# Altium footprint library 功率控制板.PcbLib: 36 footprints (part 1 of 3)
Each footprint in its own frame and in the unit in brackets; x right, y up, seen from the top. Pads: shape width x height; smd on the part's side, far side on the other; paste and mask are expansions set on the pad; w line width, h text height; cw(c..) or ccw(c..) is an arc to the next point about the centre after c.
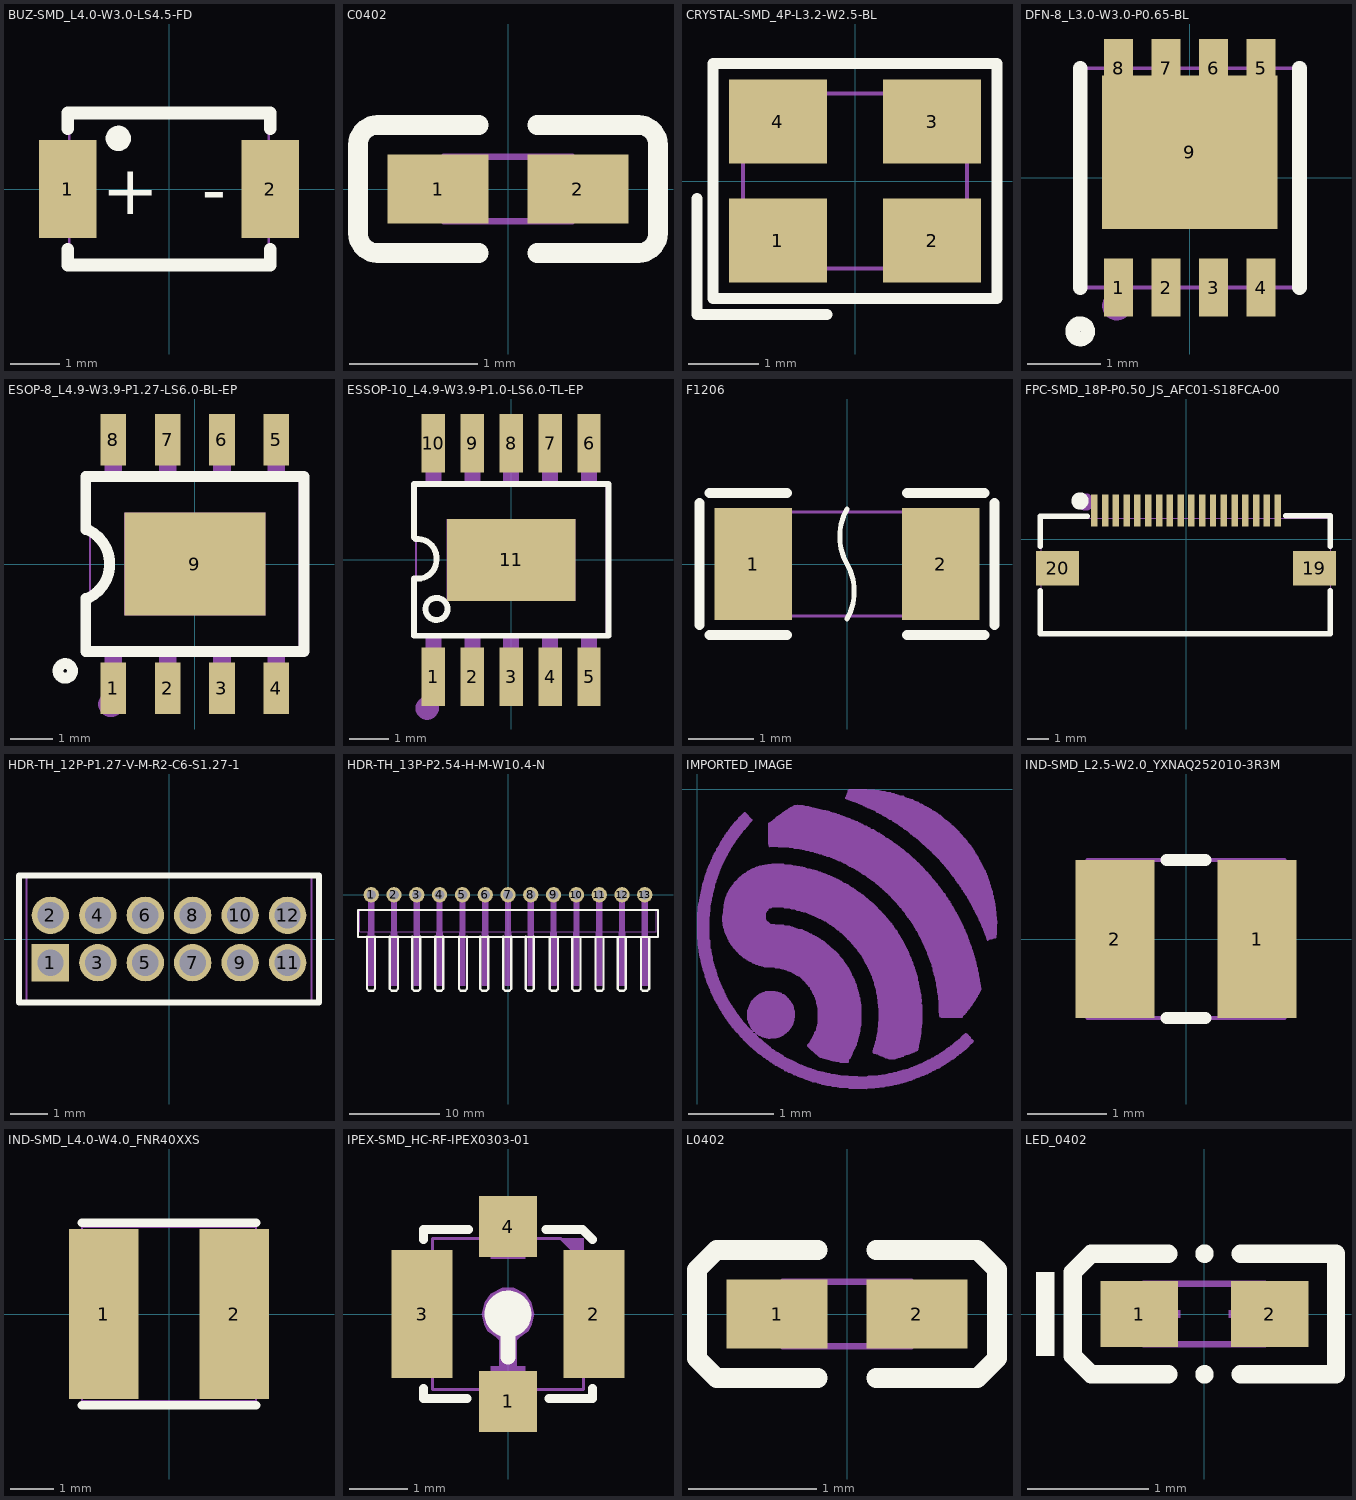
[diagram p0: the footprints below, top view; thin cyan lines are the x and y axes]

## BUZ-SMD_L4.0-W3.0-LS4.5-FD [mm]
pads (2):
  rect 1.16x1.96 smd: 1(-2.03,0) 2(2.03,0)
Top Overlay:
  circle w0.254: c-1.016,1.016 r0.127
  lines w0.254: -2.032,-1.211 -2.032,-1.524 2.032,-1.524 2.032,-1.211 ; -2.032,1.211 -2.032,1.524 2.032,1.524 2.032,1.211
  text "+" at -1.35,-0.51 h1
  text "-" at 0.66,-0.5 h1
Mechanical 15:
  region: -2.25,-0.7 -1.65,-0.7 -1.65,0.7 -2.25,0.7
  region: 2.25,-0.7 1.65,-0.7 1.65,0.7 2.25,0.7
  lines w0.051: -2,-1.5 2,-1.5 2,1.5 -2,1.5 -2,-1.5

## C0402 [mm]
pads (2):
  rect 0.79x0.54 smd paste-100 mask+0.051: 1(-0.545,0) 2(0.545,0)
Top Overlay:
  lines w0.152: -0.226,-0.499 -1.016,-0.499 cw(c-1.016,-0.346) -1.169,-0.346 -1.169,0.346 cw(c-1.016,0.346) -1.016,0.499 -0.226,0.499 ; 0.226,-0.499 1.016,-0.499 ccw(c1.016,-0.346) 1.169,-0.346 1.169,0.346 ccw(c1.016,0.346) 1.016,0.499 0.226,0.499
Top Paste:
  region: 0.78,0.225 0.78,-0.225 0.73,-0.275 0.25,-0.275 0.18,-0.225 0.18,0.225 0.25,0.275 0.73,0.275
  region: -0.18,0.225 -0.18,-0.225 -0.25,-0.275 -0.73,-0.275 -0.78,-0.225 -0.78,0.225 -0.73,0.275 -0.25,0.275
Mechanical 15:
  region: 0.5,-0.25 0.5,0.25 0.25,0.25 0.25,-0.25
  region: -0.5,-0.25 -0.5,0.25 -0.25,0.25 -0.25,-0.25
  lines w0.051: -0.5,-0.25 0.5,-0.25 0.5,0.25 -0.5,0.25 -0.5,-0.25

## CRYSTAL-SMD_4P-L3.2-W2.5-BL [mm]
pads (4):
  rect 1.4x1.2 smd: 1(-1.1,-0.85) 2(1.1,-0.85) 3(1.1,0.85) 4(-1.1,0.85)
Top Overlay:
  lines w0.152: -2.257,-0.25 -2.257,-1.907 -0.4,-1.907 ; -2.029,-1.678 2.029,-1.678 2.029,1.679 -2.029,1.679 -2.029,-1.678
Mechanical 6:
  circle w0.36: c-1.143,-0.889 r0.18
Mechanical 15:
  region: -1.5,-0.35 -0.6,-0.35 -0.6,-1.15 -1.5,-1.15
  region: 0.6,-0.35 1.5,-0.35 1.5,-1.15 0.6,-1.15
  region: 0.6,1.15 1.5,1.15 1.5,0.35 0.6,0.35
  region: -1.5,1.15 -0.6,1.15 -0.6,0.35 -1.5,0.35
  lines w0.051: -1.6,-1.25 1.6,-1.25 1.6,1.25 -1.6,1.25 -1.6,-1.25

## DFN-8_L3.0-W3.0-P0.65-BL [mm]
pads (9):
  rect 0.4x0.8 smd paste-100 mask+0.051: 1(-0.975,-1.5) 2(-0.325,-1.5) 3(0.325,-1.5) 4(0.975,-1.5) 5(0.975,1.5) 6(0.325,1.5) 7(-0.325,1.5) 8(-0.975,1.5)
  rect 2.4x2.1 smd paste-100 mask+0.051: 9(0,0.35)
Top Overlay:
  circle w0.2: c-1.5,-2.1 r0.105
  lines w0.2: -1.5,-1.5 -1.5,1.5 ; 1.5,-1.5 1.5,1.5
Top Paste:
  region: 1.2,-0.7 -1.2,-0.7 -1.2,1.4 -1.175,1.4 -1.175,1.9 -0.775,1.9 -0.775,1.4 -0.525,1.4 -0.525,1.9 -0.125,1.9 -0.125,1.4 0.125,1.4 0.125,1.9 0.525,1.9 0.525,1.4 0.775,1.4 0.775,1.9 1.175,1.9 1.175,1.4 1.2,1.4
  region: 1.175,-1.9 0.775,-1.9 0.775,-1.1 1.175,-1.1
  region: 0.525,-1.9 0.125,-1.9 0.125,-1.1 0.525,-1.1
  region: -0.125,-1.9 -0.525,-1.9 -0.525,-1.1 -0.125,-1.1
  region: -0.775,-1.9 -1.175,-1.9 -1.175,-1.1 -0.775,-1.1
Mechanical 6:
  circle w0.2: c-1,-1.75 r0.1
Mechanical 15:
  region: -0.825,1.2 -1.125,1.2 -1.125,1.6 -0.825,1.6
  region: -0.175,1.2 -0.475,1.2 -0.475,1.6 -0.175,1.6
  region: 0.475,1.2 0.175,1.2 0.175,1.6 0.475,1.6
  region: -0.825,-1.6 -1.125,-1.6 -1.125,-1.2 -0.825,-1.2
  region: -0.175,-1.6 -0.475,-1.6 -0.475,-1.2 -0.175,-1.2
  region: 0.475,-1.6 0.175,-1.6 0.175,-1.2 0.475,-1.2
  region: -1.175,1.35 1.175,1.35 1.175,-0.65 -1.175,-0.65
  region: 1.125,-1.6 0.825,-1.6 0.825,-1.2 1.125,-1.2
  region: 1.125,1.2 0.825,1.2 0.825,1.6 1.125,1.6
  lines w0.051: -1.5,-1.5 1.5,-1.5 1.5,1.5 -1.5,1.5 -1.5,-1.5

## ESOP-8_L4.9-W3.9-P1.27-LS6.0-BL-EP [mm]
pads (9):
  rect 0.6x1.2 smd: 1(-1.905,-2.908) 2(-0.635,-2.908) 3(0.635,-2.908) 4(1.905,-2.908) 5(1.905,2.908) 6(0.635,2.908) 7(-0.635,2.908) 8(-1.905,2.908)
  rect 3.3x2.4 smd: 9(0,0)
Top Overlay:
  circle w0.254: c-3.03,-2.5 r0.17
  lines w0.254: -2.55,-0.8 -2.55,-2.05 2.55,-2.05 2.55,2.05 -2.55,2.05 -2.55,0.8 ; -2.5,-0.8 ccw(c-2.875,0) -2.5,0.8
Mechanical 6:
  circle w0.3: c-1.96,-3.28 r0.15
Mechanical 15:
  region: 1.65,-1.2 -1.65,-1.2 -1.65,1.2 1.65,1.2
  region: 1.705,-2.95 1.705,-2.3 2.105,-2.3 2.105,-2.95
  region: 1.705,-2.31 1.705,-1.94 2.105,-1.94 2.105,-2.31
  region: 0.435,-2.95 0.435,-2.3 0.835,-2.3 0.835,-2.95
  region: 0.435,-2.31 0.435,-1.94 0.835,-1.94 0.835,-2.31
  region: -0.835,-2.95 -0.835,-2.3 -0.435,-2.3 -0.435,-2.95
  region: -0.835,-2.31 -0.835,-1.94 -0.435,-1.94 -0.435,-2.31
  region: -2.105,-2.95 -2.105,-2.3 -1.705,-2.3 -1.705,-2.95
  region: -2.105,-2.31 -2.105,-1.94 -1.705,-1.94 -1.705,-2.31
  region: 1.705,2.3 1.705,2.95 2.105,2.95 2.105,2.3
  region: 1.705,1.94 1.705,2.31 2.105,2.31 2.105,1.94
  region: 0.435,2.3 0.435,2.95 0.835,2.95 0.835,2.3
  region: 0.435,1.94 0.435,2.31 0.835,2.31 0.835,1.94
  region: -0.835,2.3 -0.835,2.95 -0.435,2.95 -0.435,2.3
  region: -0.835,1.94 -0.835,2.31 -0.435,2.31 -0.435,1.94
  region: -2.105,2.3 -2.105,2.95 -1.705,2.95 -1.705,2.3
  region: -2.105,1.94 -2.105,2.31 -1.705,2.31 -1.705,1.94
  lines w0.051: -2.45,-1.95 -2.45,1.95 2.45,1.95 2.45,-1.95 -2.45,-1.95

## ESSOP-10_L4.9-W3.9-P1.0-LS6.0-TL-EP [mm]
pads (11):
  rect 0.6x1.5 smd paste+0 mask+0.05: 1(-2,-3) 2(-1,-3) 3(0,-3) 4(1,-3) 5(2,-3) 6(2,3) 7(1,3) 8(0,3) 9(-1,3) 10(-2,3)
  rect 3.3x2.1 smd paste+0 mask+0.05: 11(0,0)
Top Overlay:
  circle w0.15: c-1.92,-1.26 r0.284
  lines w0.15: -2.5,-1.95 2.5,-1.95 2.5,1.95 -2.5,1.95 -2.5,0.82 -2.5,0.58 -2.46,0.54 cw(c-2.416,0.044) -1.92,0 cw(c-2.4,0) -2.4,-0.48 -2.5,-0.48 -2.5,-1.95
Mechanical 6:
  circle w0.3: c-2.159,-3.81 r0.15
Mechanical 15:
  region: 1.65,-1.05 -1.65,-1.05 -1.65,1.05 1.65,1.05
  region: -2.2,2.38 -2.2,3 -1.8,3 -1.8,2.38
  region: -2.2,1.94 -2.2,2.39 -1.8,2.39 -1.8,1.94
  region: -1.2,2.38 -1.2,3 -0.8,3 -0.8,2.38
  region: -1.2,1.94 -1.2,2.39 -0.8,2.39 -0.8,1.94
  region: -0.2,2.38 -0.2,3 0.2,3 0.2,2.38
  region: -0.2,1.94 -0.2,2.39 0.2,2.39 0.2,1.94
  region: 0.8,2.38 0.8,3 1.2,3 1.2,2.38
  region: 0.8,1.94 0.8,2.39 1.2,2.39 1.2,1.94
  region: 1.8,2.38 1.8,3 2.2,3 2.2,2.38
  region: 1.8,1.94 1.8,2.39 2.2,2.39 2.2,1.94
  region: 1.8,-3 1.8,-2.38 2.2,-2.38 2.2,-3
  region: 1.8,-2.39 1.8,-1.94 2.2,-1.94 2.2,-2.39
  region: 0.8,-3 0.8,-2.38 1.2,-2.38 1.2,-3
  region: 0.8,-2.39 0.8,-1.94 1.2,-1.94 1.2,-2.39
  region: -0.2,-3 -0.2,-2.38 0.2,-2.38 0.2,-3
  region: -0.2,-2.39 -0.2,-1.94 0.2,-1.94 0.2,-2.39
  region: -1.2,-3 -1.2,-2.38 -0.8,-2.38 -0.8,-3
  region: -1.2,-2.39 -1.2,-1.94 -0.8,-1.94 -0.8,-2.39
  region: -2.2,-3 -2.2,-2.38 -1.8,-2.38 -1.8,-3
  region: -2.2,-2.39 -2.2,-1.94 -1.8,-1.94 -1.8,-2.39
  lines w0.051: -2.45,-1.95 2.45,-1.95 2.45,1.95 -2.45,1.95 -2.45,-1.95

## F1206 [mm]
pads (2):
  rect 1.19x1.728 smd: 1(-1.445,0) 2(1.445,0)
Top Overlay:
  lines w0.076: 0,-0.845 ccw(c-0.732,-0.422) 0,0 cw(c0.732,0.422) 0,0.845
  lines w0.152: -2.269,-0.94 -2.269,0.94 ; -2.116,-1.093 -0.926,-1.093 ; -2.116,1.093 -0.926,1.093 ; 0.926,-1.093 2.116,-1.093 ; 0.926,1.093 2.116,1.093 ; 2.269,-0.94 2.269,0.94
Mechanical 15:
  region: 1.1,-0.8 1.6,-0.8 1.6,0.8 1.1,0.8
  region: -1.6,-0.8 -1.1,-0.8 -1.1,0.8 -1.6,0.8
  lines w0.051: -1.6,-0.8 -1.6,0.8 1.6,0.8 1.6,-0.8 -1.6,-0.8

## FPC-SMD_18P-P0.50_JS_AFC01-S18FCA-00 [mm]
pads (20):
  rect 0.3x1.5 smd paste+0 mask+0.051: 1(-4.25,1.339) 2(-3.75,1.339) 3(-3.25,1.339) 4(-2.75,1.339) 5(-2.249,1.339) 6(-1.749,1.339) 7(-1.249,1.339) 8(-0.749,1.339) 9(-0.25,1.339) 10(0.25,1.339) 11(0.75,1.339) 12(1.251,1.339) 13(1.751,1.339) 14(2.25,1.339) 15(2.751,1.339) 16(3.25,1.339) 17(3.75,1.339) 18(4.251,1.339)
  rect 2x1.6 smd paste+0 mask+0.051: 19(5.949,-1.339) 20(-5.949,-1.339)
Top Overlay:
  circle w0.4: c-4.91,1.78 r0.2
  lines w0.254: -6.75,-2.371 -6.75,-4.37 6.69,-4.37 6.69,-2.371 ; -6.75,-0.308 -6.75,1.07 -4.57,1.07 ; 4.63,1.09 6.69,1.09 6.69,-0.308
Mechanical 6:
  circle w0.4: c-4.66,1.73 r0.2
Mechanical 15:
  region: 4.151,1.685 4.351,1.685 4.351,0.685 4.151,0.685
  region: 3.65,1.685 3.85,1.685 3.85,0.685 3.65,0.685
  region: 3.15,1.685 3.35,1.685 3.35,0.685 3.15,0.685
  region: 2.651,1.685 2.851,1.685 2.851,0.685 2.651,0.685
  region: 2.15,1.685 2.35,1.685 2.35,0.685 2.15,0.685
  region: 1.651,1.685 1.851,1.685 1.851,0.685 1.651,0.685
  region: 1.151,1.685 1.351,1.685 1.351,0.685 1.151,0.685
  region: 0.65,1.685 0.85,1.685 0.85,0.685 0.65,0.685
  region: 0.15,1.685 0.35,1.685 0.35,0.685 0.15,0.685
  region: -0.35,1.685 -0.15,1.685 -0.15,0.685 -0.35,0.685
  region: -0.849,1.685 -0.649,1.685 -0.649,0.685 -0.849,0.685
  region: -1.349,1.685 -1.149,1.685 -1.149,0.685 -1.349,0.685
  region: -1.849,1.685 -1.649,1.685 -1.649,0.685 -1.849,0.685
  region: -2.349,1.685 -2.149,1.685 -2.149,0.685 -2.349,0.685
  region: -2.85,1.685 -2.65,1.685 -2.65,0.685 -2.85,0.685
  region: -3.35,1.685 -3.15,1.685 -3.15,0.685 -3.35,0.685
  region: -3.85,1.685 -3.65,1.685 -3.65,0.685 -3.85,0.685
  region: -4.35,1.685 -4.15,1.685 -4.15,0.685 -4.35,0.685
  region: 6.699,-1.839 5.199,-1.839 5.199,-0.839 6.699,-0.839
  region: -6.699,-0.839 -5.199,-0.839 -5.199,-1.839 -6.699,-1.839
  lines w0.051: -6.7,-4.365 -6.7,0.985 6.7,0.985 6.7,-4.365 -6.7,-4.365

## HDR-TH_12P-P1.27-V-M-R2-C6-S1.27-1 [mm]
pads (12):
  rect 1x1 hole 0.7 paste+0 mask+0.05: 1(-3.175,-0.635)
  round 1 hole 0.7 paste+0 mask+0.05: 2(-3.175,0.635) 3(-1.905,-0.635) 4(-1.905,0.635) 5(-0.635,-0.635) 6(-0.635,0.635) 7(0.635,-0.635) 8(0.635,0.635) 9(1.905,-0.635) 10(1.905,0.635) 11(3.175,-0.635) 12(3.175,0.635)
Top Overlay:
  lines w0.152: -4.015,-1.7 4.015,-1.7 4.015,1.7 -4.015,1.7 -4.015,-1.7
Mechanical 15:
  region: 2.975,0.835 3.375,0.835 3.375,0.435 2.975,0.435
  region: 2.975,-0.435 3.375,-0.435 3.375,-0.835 2.975,-0.835
  region: 1.705,0.835 2.105,0.835 2.105,0.435 1.705,0.435
  region: 1.705,-0.435 2.105,-0.435 2.105,-0.835 1.705,-0.835
  region: 0.435,0.835 0.835,0.835 0.835,0.435 0.435,0.435
  region: 0.435,-0.435 0.835,-0.435 0.835,-0.835 0.435,-0.835
  region: -0.835,0.835 -0.435,0.835 -0.435,0.435 -0.835,0.435
  region: -0.835,-0.435 -0.435,-0.435 -0.435,-0.835 -0.835,-0.835
  region: -2.105,0.835 -1.705,0.835 -1.705,0.435 -2.105,0.435
  region: -2.105,-0.435 -1.705,-0.435 -1.705,-0.835 -2.105,-0.835
  region: -3.375,0.835 -2.975,0.835 -2.975,0.435 -3.375,0.435
  region: -3.375,-0.435 -2.975,-0.435 -2.975,-0.835 -3.375,-0.835
  lines w0.051: -3.81,-1.7 3.81,-1.7 3.81,1.7 -3.81,1.7 -3.81,-1.7

## HDR-TH_13P-P2.54-H-M-W10.4-N [mm]
pads (13):
  round 1.7 hole 1.1: 1(-15.24,0) 2(-12.7,0) 3(-10.16,0) 4(-7.62,0) 5(-5.08,0) 6(-2.54,0) 7(0,0) 8(2.54,0) 9(5.08,0) 10(7.62,0) 11(10.16,0) 12(12.7,0) 13(15.24,0)
Top Overlay:
  lines w0.254: -15.71,-4.68 -15.71,-10.48 -15.51,-10.68 -15.01,-10.68 -14.81,-10.48 -14.81,-4.68 ; -13.16,-4.68 -13.16,-10.48 -12.96,-10.68 -12.46,-10.68 -12.26,-10.48 -12.26,-4.68 ; -10.66,-4.68 -10.66,-10.48 -10.46,-10.68 -9.96,-10.68 -9.76,-10.48 -9.76,-4.68 ; -8.11,-4.68 -8.11,-10.48 -7.91,-10.68 -7.41,-10.68 -7.21,-10.48 -7.21,-4.68 ; -5.46,-4.68 -5.46,-10.48 -5.26,-10.68 -4.76,-10.68 -4.56,-10.48 -4.56,-4.68 ; -3.085,-4.68 -3.085,-10.48 -2.885,-10.68 -2.385,-10.68 -2.185,-10.48 -2.185,-4.68 ; -0.535,-4.68 -0.535,-10.48 -0.335,-10.68 0.165,-10.68 0.365,-10.48 0.365,-4.68 ; 1.965,-4.68 1.965,-10.48 2.165,-10.68 2.665,-10.68 2.865,-10.48 2.865,-4.68 ; 4.661,-4.7 4.661,-10.5 4.861,-10.7 5.361,-10.7 5.561,-10.5 5.561,-4.7 ; 7.167,-4.7 7.167,-10.5 7.367,-10.7 7.867,-10.7 8.067,-10.5 8.067,-4.7 ; 9.741,-4.7 9.741,-10.5 9.941,-10.7 10.441,-10.7 10.641,-10.5 10.641,-4.7 ; 12.213,-4.7 12.213,-10.5 12.413,-10.7 12.913,-10.7 13.113,-10.5 13.113,-4.7 ; 14.821,-4.7 14.821,-10.5 15.021,-10.7 15.521,-10.7 15.721,-10.5 15.721,-4.7 ; -16.71,-4.7 -16.71,-1.7 16.71,-1.7 16.71,-4.7 -16.71,-4.7
Mechanical 6:
  region: 14.88,-10.1 14.88,-4.1 15.58,-4.1 15.58,-10.1
  region: 4.72,-10.1 4.72,-4.1 5.42,-4.1 5.42,-10.1
  region: 7.26,-10.1 7.26,-4.1 7.96,-4.1 7.96,-10.1
  region: 9.8,-10.1 9.8,-4.1 10.5,-4.1 10.5,-10.1
  region: 12.34,-10.1 12.34,-4.1 13.04,-4.1 13.04,-10.1
  region: -5.44,-10.1 -5.44,-4.1 -4.74,-4.1 -4.74,-10.1
  region: -2.9,-10.1 -2.9,-4.1 -2.2,-4.1 -2.2,-10.1
  region: -0.36,-10.1 -0.36,-4.1 0.34,-4.1 0.34,-10.1
  region: 2.18,-10.1 2.18,-4.1 2.88,-4.1 2.88,-10.1
  region: -7.98,-10.1 -7.98,-4.1 -7.28,-4.1 -7.28,-10.1
  region: -10.52,-10.1 -10.52,-4.1 -9.82,-4.1 -9.82,-10.1
  region: -13.06,-10.1 -13.06,-4.1 -12.36,-4.1 -12.36,-10.1
  region: -15.6,-10.1 -15.6,-4.1 -14.9,-4.1 -14.9,-10.1
Mechanical 15:
  region: 14.92,0.32 15.56,0.32 15.56,-10.128 14.92,-10.128
  region: 7.3,0.32 7.94,0.32 7.94,-10.128 7.3,-10.128
  region: 9.84,0.32 10.48,0.32 10.48,-10.128 9.84,-10.128
  region: 12.38,0.32 13.02,0.32 13.02,-10.128 12.38,-10.128
  region: -0.32,0.32 0.32,0.32 0.32,-10.128 -0.32,-10.128
  region: 2.22,0.32 2.86,0.32 2.86,-10.128 2.22,-10.128
  region: 4.76,0.32 5.4,0.32 5.4,-10.128 4.76,-10.128
  region: -7.94,0.32 -7.3,0.32 -7.3,-10.128 -7.94,-10.128
  region: -5.4,0.32 -4.76,0.32 -4.76,-10.128 -5.4,-10.128
  region: -2.86,0.32 -2.22,0.32 -2.22,-10.128 -2.86,-10.128
  region: -10.48,0.32 -9.84,0.32 -9.84,-10.128 -10.48,-10.128
  region: -13.02,0.32 -12.38,0.32 -12.38,-10.128 -13.02,-10.128
  region: -15.56,0.32 -14.92,0.32 -14.92,-10.128 -15.56,-10.128
  region: 4.76,0.32 5.4,0.32 5.4,-0.32 4.76,-0.32
  region: 7.3,0.32 7.94,0.32 7.94,-0.32 7.3,-0.32
  region: 9.84,0.32 10.48,0.32 10.48,-0.32 9.84,-0.32
  region: 12.38,0.32 13.02,0.32 13.02,-0.32 12.38,-0.32
  region: 14.92,0.32 15.56,0.32 15.56,-0.32 14.92,-0.32
  region: 2.22,0.32 2.86,0.32 2.86,-0.32 2.22,-0.32
  region: -0.32,0.32 0.32,0.32 0.32,-0.32 -0.32,-0.32
  region: -2.86,0.32 -2.22,0.32 -2.22,-0.32 -2.86,-0.32
  region: -5.4,0.32 -4.76,0.32 -4.76,-0.32 -5.4,-0.32
  region: -7.94,0.32 -7.3,0.32 -7.3,-0.32 -7.94,-0.32
  region: -10.48,0.32 -9.84,0.32 -9.84,-0.32 -10.48,-0.32
  region: -13.02,0.32 -12.38,0.32 -12.38,-0.32 -13.02,-0.32
  region: -15.56,0.32 -14.92,0.32 -14.92,-0.32 -15.56,-0.32
  lines w0.051: -16.51,-4.128 16.51,-4.128 16.51,-1.628 -16.51,-1.628 -16.51,-4.128

## IMPORTED_IMAGE [mm]
Bottom Overlay:
  drawing of 4 lines, arcs and shapes, not listed

## IND-SMD_L2.5-W2.0_YXNAQ252010-3R3M [mm]
pads (2):
  rect 1x2 smd: 1(0.9,0) 2(-0.9,0)
Top Overlay:
  lines w0.152: -0.25,-1 0.25,-1 ; -0.25,1 0.25,1
Mechanical 15:
  region: -1.25,0.75 -0.45,0.75 -0.45,-0.75 -1.25,-0.75
  region: 0.45,0.75 1.25,0.75 1.25,-0.75 0.45,-0.75
  lines w0.051: -1.25,-1 -1.25,1 1.25,1 1.25,-1 -1.25,-1

## IND-SMD_L4.0-W4.0_FNR40XXS [mm]
pads (2):
  rect 1.6x3.9 smd paste+0 mask+0.051: 1(-1.5,0) 2(1.5,0)
Top Overlay:
  lines w0.203: -2,-2.1 2,-2.1 ; -2,2.1 2,2.1
Mechanical 15:
  region: -1.051,1.65 -1.051,-1.65 -2.001,-1.65 -2.001,1.65
  region: 2.001,1.65 2.001,-1.65 1.051,-1.65 1.051,1.65
  lines w0.051: -2,-2 2,-2 2,2 -2,2 -2,-2

## IPEX-SMD_HC-RF-IPEX0303-01 [mm]
pads (4):
  rect 1x1.05 smd paste+0 mask+0.05: 1(0,-1.5) 4(0,1.5)
  rect 1.05x2.2 smd paste+0 mask+0.05: 2(1.475,0) 3(-1.475,0)
Top Overlay:
  circle w0.4: c0,0 r0.2
  lines w0.152: -1.45,-1.28 -1.45,-1.3 -1.45,-1.45 -0.701,-1.45 ; -1.45,1.28 -1.45,1.4 -1.45,1.45 -1.4,1.45 -0.68,1.45 ; 0.65,1.45 1.1,1.45 1.28,1.45 1.45,1.28 1.447,1.28 1.277,1.45 ; 0.701,-1.45 1.097,-1.45 1.45,-1.45 1.45,-1.3 1.45,-1.28
  lines w0.254: 0,-0.744 0,-0.3
Mechanical 6:
  circle w0.4: c0,-1.45 r0.2
  region: 1.3,0.9 1.3,1.3 0.9,1.3
Mechanical 15:
  region: -0.3,-1.5 -0.3,-1.55 0.3,-1.55 0.3,-1 0.3,-0.9 0.15,-0.9 0.15,-0.55 0.15,-0.45 0.2,-0.4 0.35,-0.3 0.4,-0.2 0.45,0 0.4,0.2 0.3,0.35 0.1,0.45 -0.1,0.45 -0.3,0.35 -0.4,0.2 -0.45,0 -0.4,-0.2 -0.35,-0.3 -0.2,-0.4 -0.15,-0.45 -0.15,-0.9 -0.3,-0.9
  region: 0.3,0.95 -0.3,0.95 -0.3,1.55 0.3,1.55
  region: -1.15,-0.9 -1.5,-0.9 -1.5,0.9 -1.15,0.9
  region: 1.15,0.9 1.5,0.9 1.5,-0.9 1.15,-0.9
  lines w0.051: -1.3,-1.3 -1.3,1.3 0.9,1.3 1.3,0.9 1.3,-1.3 -1.3,-1.3

## L0402 [mm]
pads (2):
  rect 0.79x0.54 smd paste-100 mask+0.051: 1(-0.545,0) 2(0.545,0)
Top Overlay:
  lines w0.152: -0.226,-0.499 -1.016,-0.499 -1.169,-0.346 -1.169,0.346 -1.016,0.499 -0.226,0.499 ; 0.226,-0.499 1.016,-0.499 1.169,-0.346 1.169,0.346 1.016,0.499 0.226,0.499
Top Paste:
  region: -0.135,-0.086 -0.135,0.086 -0.404,0.27 -0.9,0.27 -0.94,0.23 -0.94,-0.23 -0.9,-0.27 -0.404,-0.27
  region: 0.135,-0.086 0.135,0.086 0.404,0.27 0.9,0.27 0.94,0.23 0.94,-0.23 0.9,-0.27 0.404,-0.27
Mechanical 15:
  region: 0.5,-0.25 0.5,0.25 0.25,0.25 0.25,-0.25
  region: -0.5,-0.25 -0.5,0.25 -0.25,0.25 -0.25,-0.25
  lines w0.051: -0.5,-0.25 0.5,-0.25 0.5,0.25 -0.5,0.25 -0.5,-0.25

## LED_0402 [mm]
pads (2):
  rect 0.638x0.541 smd paste-100 mask+0.051: 1(-0.538,0) 2(0.538,0)
Top Overlay:
  circle w0.076: c0,0.498 r0.038
  circle w0.076: c0,-0.498 r0.038
  region: -1.237,-0.345 -1.237,0.345 -1.389,0.345 -1.389,-0.345
  lines w0.152: -0.297,-0.498 -0.932,-0.498 -1.085,-0.345 -1.085,0.345 -0.932,0.498 -0.297,0.498 ; 0.297,-0.498 1.085,-0.498 1.085,0.498 0.297,0.498
Top Paste:
  region: -0.198,-0.231 -0.198,0.231 -0.239,0.269 -0.815,0.269 -0.856,0.231 -0.856,-0.231 -0.815,-0.269 -0.239,-0.269
  region: 0.198,-0.231 0.198,0.231 0.239,0.269 0.815,0.269 0.856,0.231 0.856,-0.231 0.815,-0.269 0.239,-0.269
Mechanical 6:
  region: 0.351,-0.201 0.351,0.201 0.29,0.201 0.29,-0.201
  region: 0.439,-0.03 0.439,0.03 0.201,0.03 0.201,-0.03
  region: -0.439,-0.03 -0.439,0.03 -0.201,0.03 -0.201,-0.03
Mechanical 15:
  region: 0.5,-0.249 0.5,0.249 0.3,0.249 0.3,-0.249
  region: -0.5,-0.249 -0.5,0.249 -0.3,0.249 -0.3,-0.249
  lines w0.051: -0.5,-0.249 0.5,-0.249 0.5,0.249 -0.5,0.249 -0.5,-0.249